# Altium footprint library PCB_Lib.PcbLib: 301 footprints (part 18 of 19)
Each footprint in its own frame and in the unit in brackets; x right, y up, seen from the top. Pads: shape width x height; smd on the part's side, far side on the other; paste and mask are expansions set on the pad; w line width, h text height; cw(c..) or ccw(c..) is an arc to the next point about the centre after c.
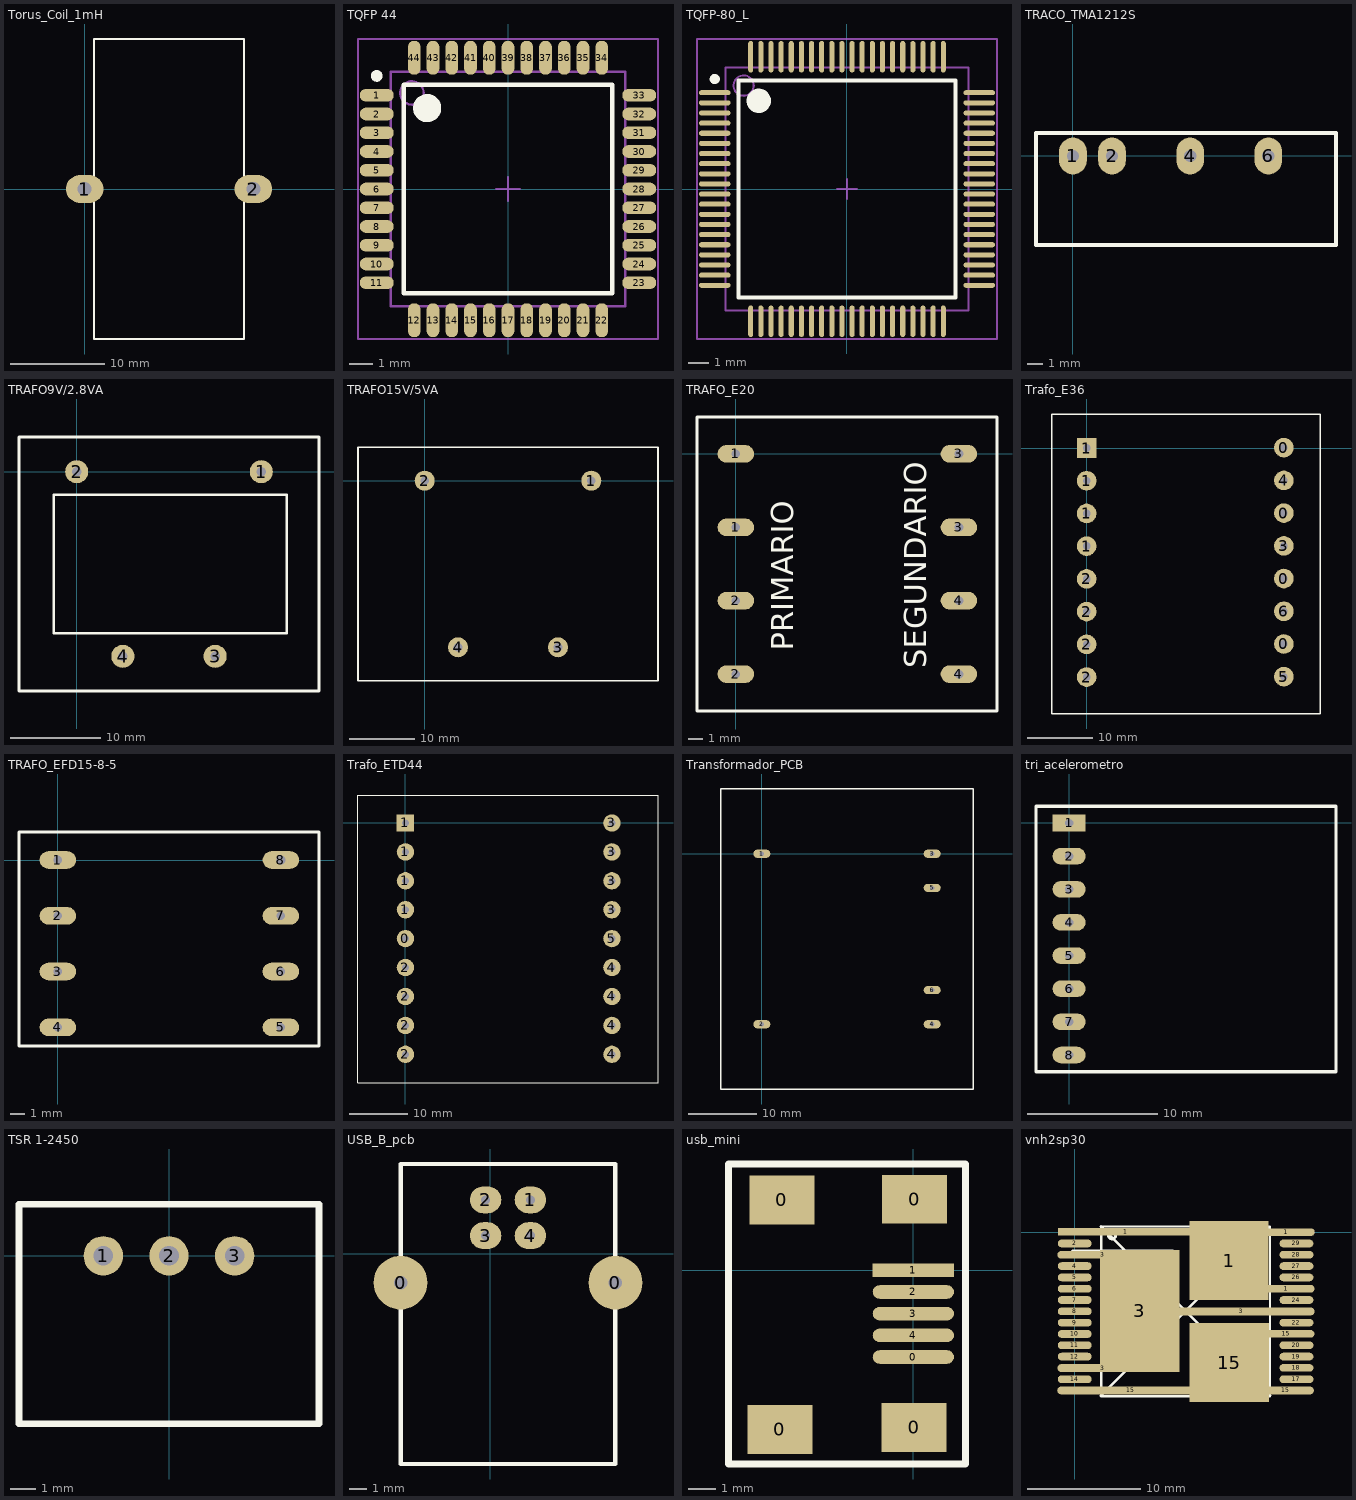
[diagram p17: the footprints below, top view; thin cyan lines are the x and y axes]

## Torus_Coil_1mH [mm]
pads (2):
  oval 4x3 hole 1.5: 1(0,0) 2(18,0)
Top Overlay:
  lines w0.254: 1,-16 17,-16 17,16 1,16 1,-16

## TQFP 44 [mm]
pads (44):
  oval 1.45x0.55 smd: 1(-5.6,4) 2(-5.6,3.2) 3(-5.6,2.4) 4(-5.6,1.6) 5(-5.6,0.8) 6(-5.6,0) 7(-5.6,-0.8) 8(-5.6,-1.6) 9(-5.6,-2.4) 10(-5.6,-3.2) 11(-5.6,-4) 23(5.6,-4) 24(5.6,-3.2) 25(5.6,-2.4) 26(5.6,-1.6) 27(5.6,-0.8) 28(5.6,0) 29(5.6,0.8) 30(5.6,1.6) 31(5.6,2.4) 32(5.6,3.2) 33(5.6,4)
  oval 0.55x1.45 smd: 12(-4,-5.6) 13(-3.2,-5.6) 14(-2.4,-5.6) 15(-1.6,-5.6) 16(-0.8,-5.6) 17(0,-5.6) 18(0.8,-5.6) 19(1.6,-5.6) 20(2.4,-5.6) 21(3.2,-5.6) 22(4,-5.6) 34(4,5.6) 35(3.2,5.6) 36(2.4,5.6) 37(1.6,5.6) 38(0.8,5.6) 39(0,5.6) 40(-0.8,5.6) 41(-1.6,5.6) 42(-2.4,5.6) 43(-3.2,5.6) 44(-4,5.6)
Top Overlay:
  circle w0.25: c-5.6,4.825 r0.125
  circle w0.6: c-3.45,3.45 r0.3
  lines w0.2: -4.45,-4.45 -4.45,4.45 4.45,4.45 4.45,-4.45 -4.45,-4.45
Mechanical 13:
  circle w0.1: c-4.1,4.1 r0.5
  lines w0.1: -5,-5 -5,5 5,5 5,-5 -5,-5
Mechanical 15:
  lines w0.1: -0.5,0 0.5,0 ; 0,-0.5 0,0.5 ; -6.4,-6.4 -6.4,6.4 6.4,6.4 6.4,-6.4 -6.4,-6.4
3D body: height 1.2, standoff 0, extent -5,-5 5,5

## TQFP-80_L [mm] "80-Pin Thin Plastic Quad Flat Pack 0.5 mm Pitch, 1.0/0.1 mm Lead Form, IPC High Density"
height 1.2
pads (80):
  oval 1.55x0.25 smd: 1(-6.525,4.75) 2(-6.525,4.25) 3(-6.525,3.75) 4(-6.525,3.25) 5(-6.525,2.75) 6(-6.525,2.25) 7(-6.525,1.75) 8(-6.525,1.25) 9(-6.525,0.75) 10(-6.525,0.25) 11(-6.525,-0.25) 12(-6.525,-0.75) 13(-6.525,-1.25) 14(-6.525,-1.75) 15(-6.525,-2.25) 16(-6.525,-2.75) 17(-6.525,-3.25) 18(-6.525,-3.75) 19(-6.525,-4.25) 20(-6.525,-4.75) 41(6.525,-4.75) 42(6.525,-4.25) 43(6.525,-3.75) 44(6.525,-3.25) 45(6.525,-2.75) 46(6.525,-2.25) 47(6.525,-1.75) 48(6.525,-1.25) 49(6.525,-0.75) 50(6.525,-0.25) 51(6.525,0.25) 52(6.525,0.75) 53(6.525,1.25) 54(6.525,1.75) 55(6.525,2.25) 56(6.525,2.75) 57(6.525,3.25) 58(6.525,3.75) 59(6.525,4.25) 60(6.525,4.75)
  oval 0.25x1.55 smd: 21(-4.75,-6.525) 22(-4.25,-6.525) 23(-3.75,-6.525) 24(-3.25,-6.525) 25(-2.75,-6.525) 26(-2.25,-6.525) 27(-1.75,-6.525) 28(-1.25,-6.525) 29(-0.75,-6.525) 30(-0.25,-6.525) 31(0.25,-6.525) 32(0.75,-6.525) 33(1.25,-6.525) 34(1.75,-6.525) 35(2.25,-6.525) 36(2.75,-6.525) 37(3.25,-6.525) 38(3.75,-6.525) 39(4.25,-6.525) 40(4.75,-6.525) 61(4.75,6.525) 62(4.25,6.525) 63(3.75,6.525) 64(3.25,6.525) 65(2.75,6.525) 66(2.25,6.525) 67(1.75,6.525) 68(1.25,6.525) 69(0.75,6.525) 70(0.25,6.525) 71(-0.25,6.525) 72(-0.75,6.525) 73(-1.25,6.525) 74(-1.75,6.525) 75(-2.25,6.525) 76(-2.75,6.525) 77(-3.25,6.525) 78(-3.75,6.525) 79(-4.25,6.525) 80(-4.75,6.525)
Top Overlay:
  circle w0.25: c-6.525,5.425 r0.125
  circle w0.6: c-4.35,4.35 r0.3
  lines w0.2: -5.35,-5.35 -5.35,5.35 5.35,5.35 5.35,-5.35 -5.35,-5.35
Mechanical 13:
  circle w0.1: c-5.1,5.1 r0.5
  lines w0.1: -6,-6 -6,6 6,6 6,-6 -6,-6
Mechanical 15:
  lines w0.1: -0.5,0 0.5,0 ; 0,-0.5 0,0.5 ; -7.4,-7.4 -7.4,7.4 7.4,7.4 7.4,-7.4 -7.4,-7.4
3D body: height 1.2, standoff 0, extent -6,-6 6,6

## TRACO_TMA1212S [mm]
pads (4):
  oval 1.8x2.4 hole 0.8: 1(0,0) 2(2.54,0) 4(7.62,0) 6(12.7,0)
Top Overlay:
  lines w0.254: -2.4,-5.8 -2.4,1.5 17.1,1.5 17.1,-5.8 -2.4,-5.8

## TRAFO9V/2.8VA [mil]
pads (4):
  round 100 hole 42: 1(800,0) 2(0,0) 3(600,-800) 4(200,-800)
Top Overlay:
  lines w10: -100,-700 910,-700 910,-100 -100,-100 -100,-700
  lines w12: -250,-950 -250,150 1050,150 1050,-950 930,-950 -250,-950

## TRAFO15V/5VA [mil]
pads (4):
  round 120 hole 52: 1(1000,0) 2(0,0) 3(800,-1000) 4(200,-1000)
Top Overlay:
  lines w10: -400,-1200 1400,-1200 1400,200 -400,200 -400,-1200

## TRAFO_E20 [mm]
pads (8):
  oval 2.5x1.2 hole 0.6: 1(0,-5.02) 1(0,0) 2(0,-15.06) 2(0,-10.04) 3(15.25,-5.02) 3(15.25,0) 4(15.25,-15.06) 4(15.25,-10.04)
Top Overlay:
  lines w0.2: 8.88,2.51 17.85,2.51 17.85,-17.57 -2.65,-17.57 -2.65,2.51 9.075,2.51
  text "PRIMARIO" at 3.925,-13.45 h1.52
  text "SEGUNDARIO" at 13,-14.65 h1.52

## Trafo_E36 [mm]
pads (16):
  round 3 hole 1.2: 0(30.125,-29.95) 0(30.125,-19.95) 0(30.125,-9.95) 0(30.125,0.05) 1(0,-15) 1(0,-10) 1(0,-5) 2(0,-35) 2(0,-30) 2(0,-25) 2(0,-20) 3(30.125,-14.95) 4(30.125,-4.95) 5(30.125,-34.95) 6(30.125,-24.95)
  rect 3x3 hole 1.2: 1(0,0)
Top Overlay:
  lines w0.2: -5.35,-40.65 35.7,-40.65 35.7,5.2 -5.35,5.2 -5.35,-40.65

## TRAFO_EFD15-8-5 [mm]
pads (8):
  oval 2.5x1.2 hole 0.6: 1(0,0) 2(0,-3.81) 3(0,-7.62) 4(0,-11.43) 5(15.24,-11.43) 6(15.24,-7.62) 7(15.24,-3.81) 8(15.25,0)
Top Overlay:
  lines w0.2: 8.88,1.905 17.85,1.905 17.85,-12.7 -2.65,-12.7 -2.65,1.905 9.525,1.905

## Trafo_ETD44 [mm]
pads (18):
  round 3 hole 1.2: 0(0,-20) 1(0,-15) 1(0,-10) 1(0,-5) 2(0,-40) 2(0,-35) 2(0,-30) 2(0,-25) 3(35.7,-15) 3(35.7,-10) 3(35.7,-5) 3(35.7,0) 4(35.7,-40) 4(35.7,-35) 4(35.7,-30) 4(35.7,-25) 5(35.7,-20)
  rect 3x3 hole 1.2: 1(0,0)
Top Overlay:
  lines w0.2: -8.2,-44.95 -8.2,4.825 43.675,4.825 43.675,-44.95 -8.2,-44.95

## Transformador_PCB [mm]
pads (6):
  oval 2.5x1.2 hole 0.6: 1(0,0) 2(0,-25) 3(25,0) 4(25,-25) 5(25,-5) 6(25,-20)
Top Overlay:
  lines w0.2: -6,-34.5 31,-34.5 31,9.5 -6,9.5 -6,-34.5

## tri_acelerometro [mil]
pads (8):
  rect 100x50 hole 25: 1(0,0)
  oval 100x50 hole 25: 2(0,-100) 3(0,-200) 4(0,-300) 5(0,-400) 6(0,-500) 7(0,-600) 8(0,-700)
Top Overlay:
  lines w10: -100,-750 -100,50 805,50 805,-750 -100,-750

## TSR 1-2450 [mil]
height 409.45
pads (3):
  round 60 hole 30: 1(-100,0) 2(0,0) 3(100,0)
Top Overlay:
  lines w10: -228.35,-255.91 228.35,-255.91 228.35,78.74 -228.35,78.74 -228.35,-255.91

## USB_B_pcb [mil] "Puerto USB tipo B parar placas"
height 200
pads (6):
  round 120 hole 30: 0(-200,-65) 0(280,-65)
  oval 70x60 hole 20: 1(90,120) 2(-10,120) 3(-10,40) 4(90,40)
Top Overlay:
  lines w10: -200,-470 -200,200 280,200 280,-470 -200,-470

## usb_mini [mm]
pads (9):
  rect 2.4x1.8 smd: 0(-4.925,-5.875) 0(-4.85,2.6) 0(0.025,-5.8) 0(0.05,2.625)
  oval 3x0.5 smd: 0(0,-3.2) 2(0,-0.8) 3(0,-1.6) 4(0,-2.4)
  rect 3x0.5 smd: 1(0,0)
Top Overlay:
  lines w0.254: -6.825,-7.15 -6.825,3.925 1.925,3.925 1.925,-7.15 -6.825,-7.15

## vnh2sp30 [mm]
pads (33):
  rect 12x0.68 smd: 1(4.521,0.025)
  rect 7x7 smd: 1(13.64,-2.515) 15(13.665,-11.532)
  oval 5x0.68 smd: 1(18.694,-5.004) 1(18.72,0) 15(18.644,-13.995) 15(18.694,-8.992)
  oval 3x0.68 smd: 2(0,-1) 4(0,-3) 5(0,-4) 6(0,-5) 7(0,-6) 8(0,-7) 9(0,-8) 10(0,-9) 11(0,-10) 12(0,-11) 14(0,-13) 17(19.6,-13) 18(19.6,-12) 19(19.6,-11) 20(19.6,-10) 22(19.6,-8) 24(19.6,-6) 26(19.6,-4) 27(19.6,-3) 28(19.6,-2) 29(19.6,-1)
  oval 8x0.68 smd: 3(2.464,-12.014) 3(2.464,-2.007)
  rect 7x10.8 smd: 3(5.74,-6.96)
  oval 13x0.68 smd: 3(14.707,-7.01) 15(4.953,-13.995)
Top Overlay:
  circle w0.254: c3.302,-0.279 r0.318
  lines w0.2: 2.335,-14.5 17.265,-14.5 17.265,0.5 10.05,0.5 ccw(c9.8,-3.346) 9.55,0.5 2.335,0.5 2.335,-14.5
  lines w0.254: -0.203,-1.651 8.687,-1.651 ; 2.335,-14.5 2.335,-14.43 17.221,0.456 ; 2.335,0.5 17.265,-14.43